# EAGLE library part 53047-0610 (library molex)
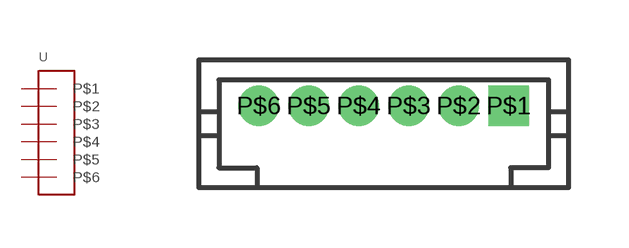
[diagram p1: symbol with the pads of 53047-0610; footprint 53047-0610]

Designator prefix -

## 53047-0610  [53047-0610]
P$1  P$1
P$2  P$2
P$3  P$3
P$4  P$4
P$5  P$5
P$6  P$6

## Footprint 53047-0610 (pad centres in mm)
drill 0.5 square: P$1 3.125,0.45
drill 0.5: P$2 1.875,0.45; P$3 0.625,0.45; P$4 -0.625,0.45; P$5 -1.875,0.45; P$6 -3.125,0.45